# Altium footprint library FCI_68786-202LF.PcbLib: 1 footprints
Each footprint in its own frame and in the unit in brackets; x right, y up, seen from the top. Pads: shape width x height; smd on the part's side, far side on the other; paste and mask are expansions set on the pad; w line width, h text height; cw(c..) or ccw(c..) is an arc to the next point about the centre after c.
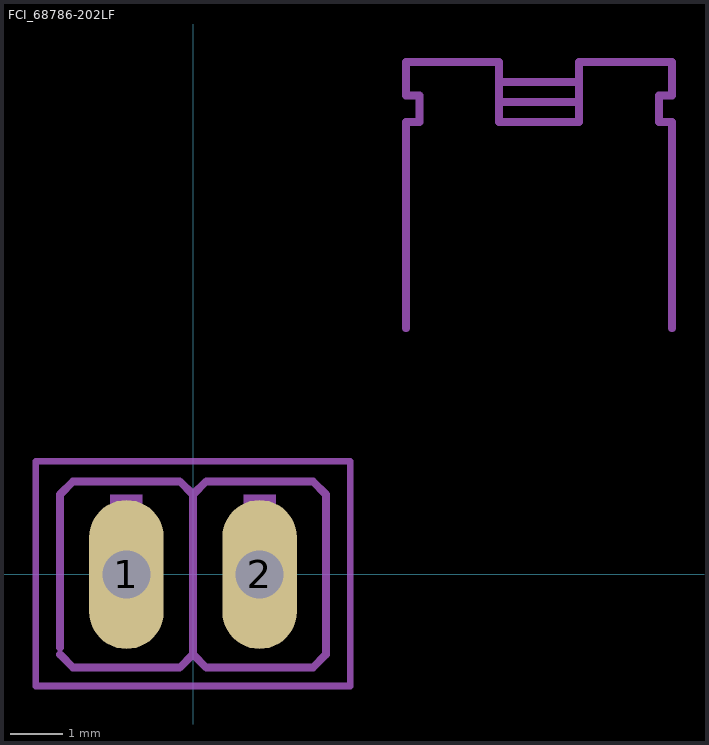
[diagram p0: the footprint, top view; thin cyan lines are the x and y axes]

## FCI_68786-202LF [mil]
pads (2):
  oval 56x112 hole 36: 1(-50,0) 2(50,0)
Mechanical 13:
  region: 62,-10.02 38.06,-10.02 38.06,60 62,60
  region: -38,-10 -62,-10 -62,60 -38,60
  lines w6: -100,-60 -90,-70 -10,-70 0,-60 ; -100,-55 -100,60 -90,70 -10,70 0,60 ; 160,185 160,340 170,340 170,360 160,360 160,385 230,385 230,370 ; 360,185 360,340 350,340 350,360 360,360 360,385 290,385 290,370 ; 0,-60 10,-70 90,-70 100,-60 100,60 90,70 10,70 0,60 ; 0,-60 0,60 ; 230,355 230,340 290,340 290,355 ; 230,355 230,370 ; 230,355 290,355 ; 230,370 290,370 ; 290,355 290,370
Mechanical 15:
  lines w5: -118.11,-83.74 118.11,-83.74 118.11,85 -118.11,85 -118.11,-83.74